# Altium schematic symbol library NE555N.SchLib: 1 symbol
Pins are listed as number, name and electrical type; pins without a type are passive.

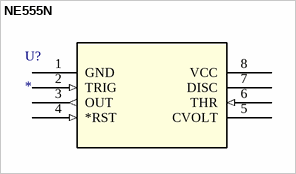
[diagram p0: symbol NE555N]

## NE555N
designator U?
No Description Available; Mfr_Name: STMicroelectronics; RefDes: RefDes; Type: Type
footprint DIP-8_STM
pins: 1 GND (power), 2 TRIG (in), 3 OUT (out), 4 *RST (in), 5 CVOLT, 6 THR (in), 7 DISC, 8 VCC (power)